# Altium footprint library lib_cree.PcbLib: 1 footprints
Each footprint in its own frame and in the unit in brackets; x right, y up, seen from the top. Pads: shape width x height; smd on the part's side, far side on the other; paste and mask are expansions set on the pad; w line width, h text height; cw(c..) or ccw(c..) is an arc to the next point about the centre after c.
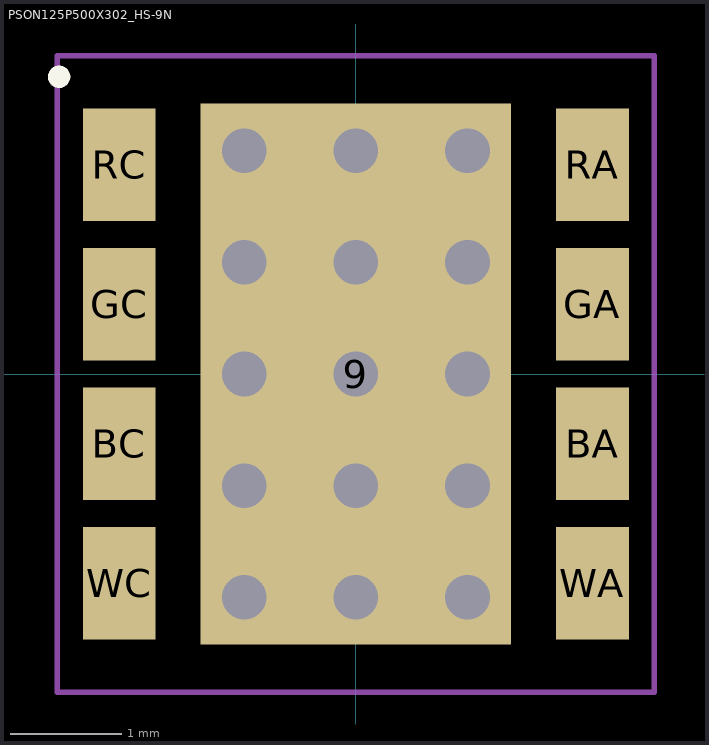
[diagram p0: the footprint, top view; thin cyan lines are the x and y axes]

## PSON125P500X302_HS-9N [mm] "PSON, 8-Leads, Body 5,00x5,00mm, Pitch 1,25mm, Thermal Pad 4,85x2,79mm, IPC Medium Density"
height 3.02
pads (9):
  rect 2.78x4.85 smd paste-1.395: 9(0,0)
  rect 0.65x1.01 smd: BA(2.12,-0.625) BC(-2.12,-0.625) GA(2.12,0.625) GC(-2.12,0.625) RA(2.12,1.875) RC(-2.12,1.875) WA(2.12,-1.875) WC(-2.12,-1.875)
via -1,2 diameter 0.7 hole 0.4
via 0,2 diameter 0.7 hole 0.4
via 1,2 diameter 0.7 hole 0.4
via -1,1 diameter 0.7 hole 0.4
via 0,1 diameter 0.7 hole 0.4
via 1,1 diameter 0.7 hole 0.4
via -1,0 diameter 0.7 hole 0.4
via 0,0 diameter 0.7 hole 0.4
via 1,0 diameter 0.7 hole 0.4
via -1,-1 diameter 0.7 hole 0.4
via 0,-1 diameter 0.7 hole 0.4
via 1,-1 diameter 0.7 hole 0.4
via -1,-2 diameter 0.7 hole 0.4
via 0,-2 diameter 0.7 hole 0.4
via 1,-2 diameter 0.7 hole 0.4
Top Overlay:
  circle w0.1: c-2.657,2.662 r0.05
Top Paste:
  rectangle: -1.095,1.175 -0.125,1.975
  rectangle: -1.095,0.125 -0.125,0.925
  rectangle: -1.095,-0.925 -0.125,-0.125
  rectangle: -1.095,-1.975 -0.125,-1.175
  rectangle: 0.125,1.175 1.095,1.975
  rectangle: 0.125,0.125 1.095,0.925
  rectangle: 0.125,-0.925 1.095,-0.125
  rectangle: 0.125,-1.975 1.095,-1.175
Mechanical 15:
  lines w0.05: -2.675,-2.85 -2.675,2.85 2.675,2.85 2.675,-2.85 -2.675,-2.85
  lines w0.1: -0.5,0 0.5,0 ; 0,-0.5 0,0.5
3D body "xlamp_xm-l.stp": height 3.01, standoff -0.01, extent -2.5,-2.5 2.5,2.5